# Altium footprint library 2PinPad.PcbLib: 2 footprints
Each footprint in its own frame and in the unit in brackets; x right, y up, seen from the top. Pads: shape width x height; smd on the part's side, far side on the other; paste and mask are expansions set on the pad; w line width, h text height; cw(c..) or ccw(c..) is an arc to the next point about the centre after c.
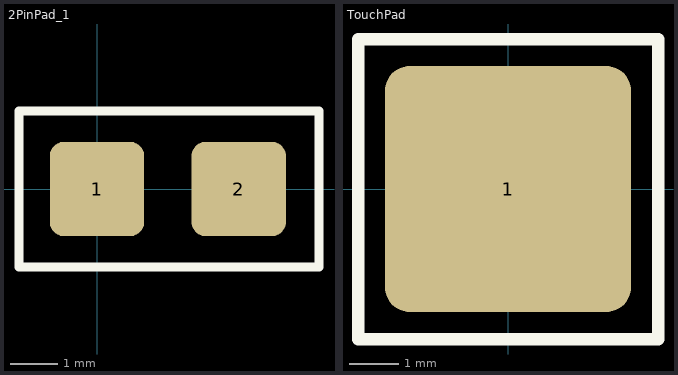
[diagram p0: the footprints below, top view; thin cyan lines are the x and y axes]

## 2PinPad_1 [mm]
pads (2):
  rrect30% 2x2 all layers, no hole: 1(0,0) 2(3,0)
Top Overlay:
  lines w0.2: -1.651,-1.651 4.699,-1.651 4.699,1.651 -1.651,1.651 -1.651,-1.651

## TouchPad [mm]
pads (1):
  rrect20% 5x5 all layers, no hole: 1(0,0)
Top Overlay:
  lines w0.254: -3.048,-3.048 3.048,-3.048 3.048,3.048 -3.048,3.048 -3.048,-3.048